# Altium schematic symbol library CapTantSmt.SchLib: 32 symbols
Pins are listed as number, name and electrical type; pins without a type are passive.

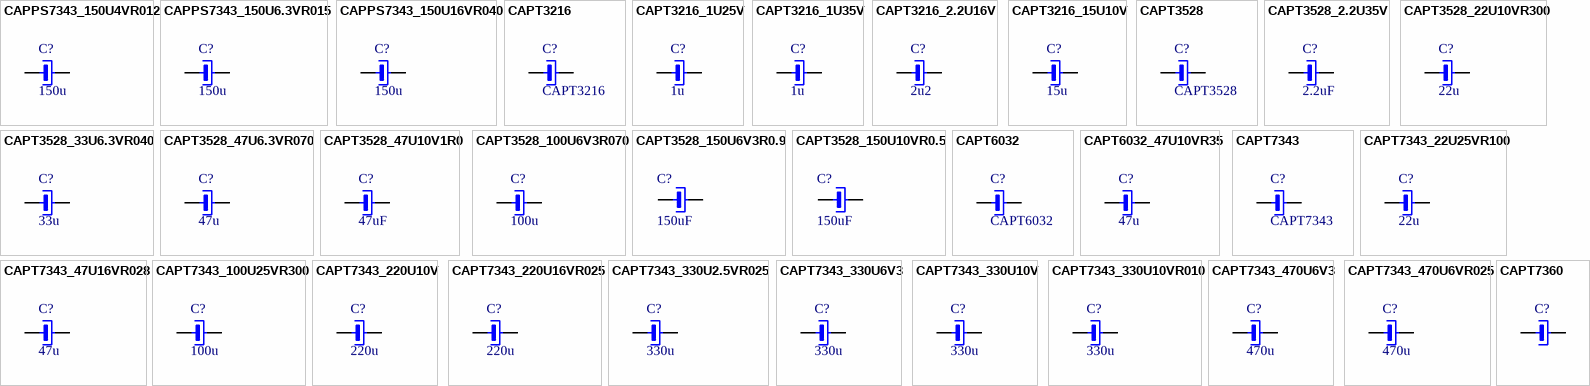
[diagram p0: symbols CAPPS7343_150U4VR012 to CAPT7360]

## CAPPS7343_150U4VR012
designator C?, comment 150u
Capacitor Al solid polymer smd 7343-31; Manufacturer: Cornell Dubilier; Manufacturer No: ESRD151M04XR; Comment2: 4V 0.012R 20% 3.3A Iripple; Sort: 220; Tech: SMDR; Package: Tant SMD D 7343-31; Price: 2.2
signal-integrity model Model Name (Model Description)
footprint CTC-D7343-31 (Capacitor Tantal Chip D - 7343, H=2.8mm)
pins: 1, 2

## CAPPS7343_150U6.3VR015
designator C?, comment 150u
Capacitor Al solid polymer smd 7343-43; Manufacturer: Cornell Dubilier; Manufacturer No: ESRE151M06R; Comment2: 6.3V 0.015R 20% 3A Iripple; Sort: 220; Tech: SMDR; Package: Tant SMD D 7343-43; Price: 2.2
signal-integrity model Model Name (Model Description)
footprint CTC-D7343-43 (Capacitor Tantal Chip D - 7343, H=4.3mm)
pins: 1, 2

## CAPPS7343_150U16VR040
designator C?, comment 150u
Capacitor solid tantalum smd 7343-43; Manufacturer: AVX, Farnell; Manufacturer No: TPME157K016R0040, 1135206; Comment2: 16V 0.04R 20% 3A Iripple; Sort: 220; Tech: SMDR; Package: Tant SMD D 7343-43; Price: 2.2
signal-integrity model Model Name (Model Description)
footprint CTC-D7343-43 (Capacitor Tantal Chip D - 7343, H=4.3mm)
pins: 1, 2

## CAPT3216
designator C?
Capacitor tantal smd 3216-18; Comment2: xxV; Sort: 220; Tech: SMDR; Package: Tant SMD A 3216-18; Price: 0
signal-integrity model Model Name (Model Description)
footprint CTC-A3216-18 (Capacitor tantal chip A - 3216, H=1.6mm)
pins: 1, 2

## CAPT3216_1U25V
designator C?, comment 1u
Capacitor tantal smd 3216-18; Comment2: 25V; Sort: 220; Tech: SMDR; Package: Tant SMD A 3216-18; Price: 0
signal-integrity model Model Name (Model Description)
footprint CTC-A3216-18 (Capacitor tantal chip A - 3216, H=1.6mm)
pins: 1, 2

## CAPT3216_1U35V
designator C?, comment 1u
Capacitor tantal smd 3216-18; Manufacturer: KEMET, Farnell; Manufacturer No: T491A105K035AT, 1457411; Comment2: 35V 7.5ESR; Sort: 220; Tech: SMDR; Package: Tant SMD A 3216-18; Price: 0
signal-integrity model Model Name (Model Description)
footprint CTC-A3216-18 (Capacitor tantal chip A - 3216, H=1.6mm)
pins: 1, 2

## CAPT3216_2.2U16V
designator C?, comment 2u2
Capacitor tantal smd 3216-18; Manufacturer: Avx, Farnell; Manufacturer No: TAJA225K016R, 197233; Comment2: 16V 6R5; Sort: 220; Tech: SMDR; Package: Tant SMD A 3216-18; Price: 0
signal-integrity model Model Name (Model Description)
footprint CTC-A3216-18 (Capacitor tantal chip A - 3216, H=1.6mm)
pins: 1, 2

## CAPT3216_15U10V
designator C?, comment 15u
Capacitor tantal smd 3216-18; Manufacturer: Avx, Farnell; Manufacturer No: TAJA156K010R, 1432342; Comment2: 10V 3R2 10%; Sort: 220; Tech: SMDR; Package: Tant SMD A 3216-18; Price: 0
signal-integrity model Model Name (Model Description)
footprint CTC-A3216-18 (Capacitor tantal chip A - 3216, H=1.6mm)
pins: 1, 2

## CAPT3528
designator C?
Capacitor tantal smd 3528-21; Comment2: xxV; Sort: 220; Tech: SMDR; Package: Tant SMD B 3528-21; Price: 0
signal-integrity model Model Name (Model Description)
footprint CTC-B3528-21 (Capacitor Tantal Chip B - 3528, H=1.9mm)
pins: 1, 2

## CAPT3528_2.2U35V
designator C?, comment 2.2uF
Capacitor tantal smd 3528-21; Comment2: 35V 1.4R 20%; Sort: 220; Tech: SMDR; Package: Tant SMD B 3528-21; Price: 0
signal-integrity model Model Name (Model Description)
footprint CTC-B3528-21 (Capacitor Tantal Chip B - 3528, H=1.9mm)
pins: 1, 2

## CAPT3528_22U10VR300
designator C?, comment 22u
Capacitor tantal smd 3528-21; Manufacturer: AVX; Manufacturer No: TCJB226M010R0300; Comment2: 10V 0.300R 20%; Sort: 220; Tech: SMDR; Package: Tant SMD B 3528-21; Price: 0
signal-integrity model Model Name (Model Description)
footprint CTC-B3528-21 (Capacitor Tantal Chip B - 3528, H=1.9mm)
pins: 1, 2

## CAPT3528_33U6.3VR040
designator C?, comment 33u
Capacitor tantal smd 3528-21; Manufacturer: Kemet; Manufacturer No: T520B336M006ATE040; Comment2: 6.3V 0.040R 20%; Sort: 220; Tech: SMDR; Package: Tant SMD B 3528-21; Price: 2
signal-integrity model Model Name (Model Description)
footprint CTC-B3528-21
pins: 1, 2

## CAPT3528_47U6.3VR070
designator C?, comment 47u
Capacitor tantal smd 3528-12; Manufacturer: Kemet; Manufacturer No: T520B476M006ATE070; Comment2: 6.3V  0.070R 20%; Sort: 220; Tech: SMDR; Package: Tant SMD B 3528-12; Price: 2
signal-integrity model Model Name (Model Description)
footprint CTC-B3528-12 (Capacitor Tantal Chip B - 3528, H=1.2mm)
pins: 1, 2

## CAPT3528_47U10V1R0
designator C?, comment 47uF
Capacitor tantal smd 3528-21; Manufacturer: Kemet, Farnell; Manufacturer No: T491B476K010AT, 1457458; Comment2: 10V  1R0 10%; Sort: 220; Tech: SMDR; Package: Tant SMD B 3528-12; Price: 0.75
signal-integrity model Model Name (Model Description)
footprint CTC-B3528-21 (Capacitor Tantal Chip B - 3528, H=1.9mm)
pins: 1, 2

## CAPT3528_100U6V3R070
designator C?, comment 100u
Capacitor tantal smd 3528-21; Manufacturer: AVX; Manufacturer No: TCJB107M006R0070; Comment2: 6.3V 0.070R  20%; Sort: 220; Tech: SMDR; Package: Tant SMD B 3528-21; Price: 0
signal-integrity model Model Name (Model Description)
footprint CTC-B3528-21 (Capacitor Tantal Chip B - 3528, H=1.9mm)
pins: 1, 2

## CAPT3528_150U6V3R0.9
designator C?, comment 150uF
Capacitor tantal smd 3528-21; Manufacturer: AVX; Manufacturer No: F930J157MBA; Comment2: 6.3V 0.5R  20%; Sort: 220; Tech: SMDR; Package: Tant SMD B 3528-21; Price: 0.89; Supplier: Digi-Key; Supplier No: 478-8161-1-ND
signal-integrity model Model Name (Model Description)
footprint CTC-B3528-21 (Capacitor Tantal Chip B - 3528, H=1.9mm)
pins: 1, 2

## CAPT3528_150U10VR0.5
designator C?, comment 150uF
Capacitor tantal smd 3528-21; Manufacturer: AVX; Manufacturer No: TLJB157M010R0500; Comment2: 10V 0.5R  20%; Sort: 220; Tech: SMDR; Package: Tant SMD B 3528-21; Price: 2.53; Supplier: Digi-Key; Supplier No: 478-3349-1-ND
signal-integrity model Model Name (Model Description)
footprint CTC-B3528-21 (Capacitor Tantal Chip B - 3528, H=1.9mm)
pins: 1, 2

## CAPT6032
designator C?
Capacitor tantal smd 6032-28; Comment2: xxV; Sort: 220; Tech: SMDR; Package: Tant SMD C 6032-28; Price: 0
signal-integrity model Model Name (Model Description)
footprint CTC-C6032-28 (Capacitor tantal chip C - 6032, H=2.8mm)
pins: 1, 2

## CAPT6032_47U10VR35
designator C?, comment 47u
Capacitor tantal smd 6032-28; Manufacturer: AVX; Manufacturer No: TPSC476K10R0350; Comment2: 10V 350mR 10%; Sort: 220; Tech: SMDR; Package: Tant SMD C 6032-28; Price: 0
signal-integrity model Model Name (Model Description)
footprint CTC-C6032-28 (Capacitor tantal chip C - 6032, H=2.8mm)
pins: 1, 2

## CAPT7343
designator C?
Capacitor tantal smd 7343-31; Comment2: xxV; Sort: 220; Tech: SMDR; Package: Tant SMD D 7343-31; Price: 0
signal-integrity model Model Name (Model Description)
footprint CTC-D7343-31 (Capacitor Tantal Chip D - 7343, H=2.8mm)
pins: 1, 2

## CAPT7343_22U25VR100
designator C?, comment 22u
Capacitor tantal smd 7343-31; Manufacturer: Avx, Farnell; Manufacturer No: TPSD226K025R0100, 1135118; Comment2: 25V 0.100R 10%; Sort: 220; Tech: SMDR; Package: Tant SMD D 7343-31; Price: 1.25
signal-integrity model Model Name (Model Description)
footprint CTC-D7343-31 (Capacitor Tantal Chip D - 7343, H=2.8mm)
pins: 1, 2

## CAPT7343_47U16VR028
designator C?, comment 47u
Capacitor tantal smd 7343-31; Manufacturer: Epcos, Farnell; Manufacturer No: B45196H3476K409, 9753931; Comment2: 16V 0.028R 10%; Sort: 220; Tech: SMDR; Package: Tant SMD D 7343-31; Price: 0
signal-integrity model Model Name (Model Description)
footprint CTC-D7343-31 (Capacitor Tantal Chip D - 7343, H=2.8mm)
pins: 1, 2

## CAPT7343_100U25VR300
designator C?, comment 100u
Capacitor tantal smd 7343-43; Manufacturer: Kemet, Digi-Key; Manufacturer No: T491X107K025ZT, 399-5175-1-ND; Comment2: 25V 0.3R 10%; Sort: 220; Tech: SMDR; Package: Tant SMD D 7343-43; Price: 1.5
signal-integrity model Model Name (Model Description)
footprint CTC-D7343-43 (Capacitor Tantal Chip D - 7343, H=4.3mm)
pins: 1, 2

## CAPT7343_220U10V
designator C?, comment 220u
Capacitor tantal smd 7343-31; Manufacturer: EPCOS; Manufacturer No: B45197A2227K40; Comment2: 10V; Sort: 220; Tech: SMDR; Package: Tant SMD D 7343-31; Price: 0
signal-integrity model Model Name (Model Description)
footprint CTC-D7343-31 (Capacitor Tantal Chip D - 7343, H=2.8mm)
pins: 1, 2

## CAPT7343_220U16VR025
designator C?, comment 220u
Capacitor tantal smd 7343-43; Manufacturer: AVX, Farnell; Manufacturer No: TPME227K016R0025, 1135246; Comment2: 220u 16V 0.025R 3.2A; Sort: 220; Tech: SMDR; Package: Tant SMD D 7343-43; Price: 0
signal-integrity model Model Name (Model Description)
footprint CTC-D7343-43 (Capacitor Tantal Chip D - 7343, H=4.3mm)
pins: 1, 2

## CAPT7343_330U2.5VR025
designator C?, comment 330u
Capacitor tantal smd 7343-20; Manufacturer: Kemet; Manufacturer No: T520V337M2R5ATE025; Comment2: 2.5V 0.025R 20%; Sort: 220; Tech: SMDR; Package: Tant SMD D 7343-20; Price: 3
signal-integrity model Model Name (Model Description)
footprint CTC-D7343-20 (Capacitor Tantal Chip D - 7343, H=1.9mm)
pins: 1, 2

## CAPT7343_330U6V3
designator C?, comment 330u
Capacitor tantal smd 7343-31; Manufacturer: Kemet, Farnell; Manufacturer No: T495D337K006ATE100, 1692403; Comment2: 6V3; Sort: 220; Tech: SMDR; Package: Tant SMD D 7343-31; Price: 0
signal-integrity model Model Name (Model Description)
footprint CTC-D7343-31 (Capacitor Tantal Chip D - 7343, H=2.8mm)
pins: 1, 2

## CAPT7343_330U10V
designator C?, comment 330u
Capacitor tantal smd 7343-31; Manufacturer: Kemet; Manufacturer No: T495D337K010ATE150; Comment2: 10V; Sort: 220; Tech: SMDR; Package: Tant SMD D 7343-31; Price: 1.84; Supplier: Digi-Key; Supplier No: 399-10511-1-ND
signal-integrity model Model Name (Model Description)
footprint CTC-D7343-31 (Capacitor Tantal Chip D - 7343, H=2.8mm)
pins: 1, 2

## CAPT7343_330U10VR010
designator C?, comment 330u
Capacitor tantal smd 7343-43; Manufacturer: Kemet; Manufacturer No: T520V337M010ATE010; Comment2: 10V 0.010R 20%; Sort: 220; Tech: SMDR; Package: Tant SMD D 7343-43; Price: 1.5
signal-integrity model Model Name (Model Description)
footprint CTC-D7343-43 (Capacitor Tantal Chip D - 7343, H=4.3mm)
pins: 1, 2

## CAPT7343_470U6V3
designator C?, comment 470u
Capacitor tantal smd 7343-31; Manufacturer: AVX, Farnell; Manufacturer No: TPSD477K006R0100, 1135102; Comment2: ESR 0.1R 6V3; Sort: 220; Tech: SMDR; Package: Tant SMD D 7343-31; Price: 0
signal-integrity model Model Name (Model Description)
footprint CTC-D7343-31 (Capacitor Tantal Chip D - 7343, H=2.8mm)
pins: 1, 2

## CAPT7343_470U6VR025
designator C?, comment 470u
Capacitor tantal smd 7343-40; Manufacturer: Kemet, Farnell; Manufacturer No: T520Y477M006ATE025, 7784430; Comment2: 6V 0.025R 20%; Sort: 220; Tech: SMDR; Package: Tant SMD D 7343-40; Price: 1.5
signal-integrity model Model Name (Model Description)
footprint CTC-D7343-40 (Capacitor Tantal Chip D - 7343, H=4.0mm)
pins: 1, 2

## CAPT7360
designator C?
Capacitor tantal smd 7360; Comment2: xxV; Sort: 220; Tech: SMDR; Package: 7360 size ?; Price: 0
signal-integrity model Model Name (Model Description)
pins: 1, 2